# EAGLE library part BOX10 (library CEDTv75)
3M (TM) Pak 100 4-Wall Header Source: 3M
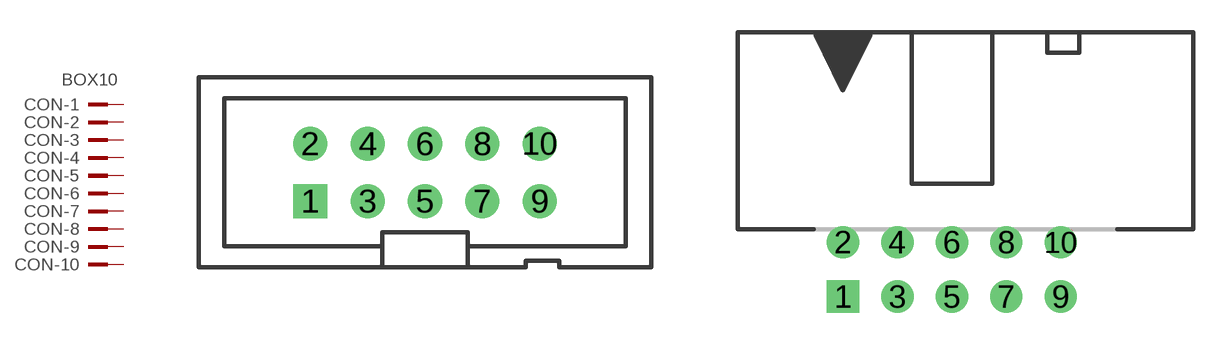
[diagram p13: symbol with the pads of BOX10; footprints BOX10, BOX10L]

Designator prefix CON; gates -1=PINV -2=PIN -3=PIN -4=PIN -5=PIN -6=PIN -7=PIN -8=PIN -9=PIN -10=PIN

## BOX10  [BOX10]
1  -1:KL  pas
2  -2:KL  pas
3  -3:KL  pas
4  -4:KL  pas
5  -5:KL  pas
6  -6:KL  pas
7  -7:KL  pas
8  -8:KL  pas
9  -9:KL  pas
10  -10:KL  pas

## BOX10L  [BOX10L]
Pads as for BOX10

## Footprint BOX10 (pad centres in mm)
3M (TM) Pak 100 4-Wall Header Straight Source: 3M
drill 1 pad 1.422 square: 1 -5.08,-1.27
drill 1 pad 1.422: 2 -5.08,1.27; 3 -2.54,-1.27; 4 -2.54,1.27; 5 0,-1.27; 6 0,1.27; 7 2.54,-1.27; 8 2.54,1.27; 9 5.08,-1.27; 10 5.08,1.27

## Footprint BOX10L (pad centres in mm)
3M (TM) Pak 100 4-Wall Header Right Angle Source: 3M
drill 1 pad 1.422 square: 1 -5.08,-1.27
drill 1 pad 1.422: 2 -5.08,1.27; 3 -2.54,-1.27; 4 -2.54,1.27; 5 0,-1.27; 6 0,1.27; 7 2.54,-1.27; 8 2.54,1.27; 9 5.08,-1.27; 10 5.08,1.27